# Altium footprint library 5个焊盘.PcbLib: 1 footprints
Each footprint in its own frame and in the unit in brackets; x right, y up, seen from the top. Pads: shape width x height; smd on the part's side, far side on the other; paste and mask are expansions set on the pad; w line width, h text height; cw(c..) or ccw(c..) is an arc to the next point about the centre after c.
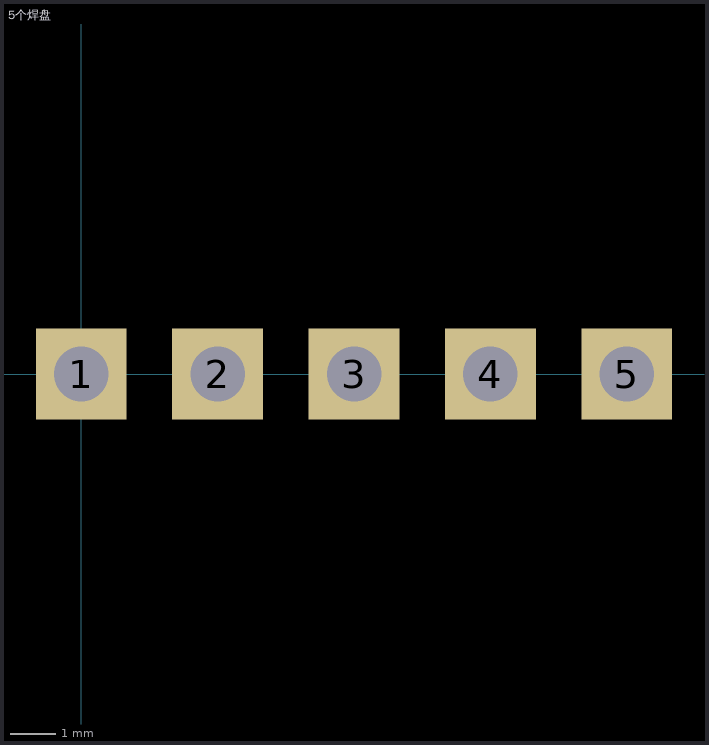
[diagram p0: the footprint, top view; thin cyan lines are the x and y axes]

## 5个焊盘 [mm]
pads (5):
  rect 2x2 hole 1.2: 1(0,0) 2(3,0) 3(6.001,0) 4(9,0) 5(12,0)